# Altium schematic symbol library powerpath_selector.SchLib: 2 symbols
Pins are listed as number, name and electrical type; pins without a type are passive.

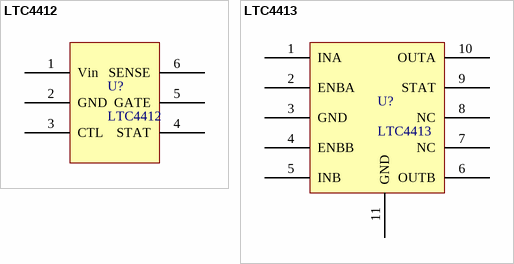
[diagram p0: symbols LTC4412 to LTC4413]

## LTC4412
designator U?
Low Loss PowerPath Controller in ThinSOT; Supplier 1: Digi-Key; Supplier Part Number 1: LTC4412ES6#TRMPBFCT-ND
footprint TSOT-23 (SOT23, 6-Leads, Body 2.90x2.45mm, Pitch 0.95mm, IPC Medium Density)
pins: 1 Vin, 2 GND, 3 CTL, 4 STAT, 5 GATE, 6 SENSE

## LTC4413
designator U?
Dual 2.6A, 2.5V to 5.5V,  Ideal Diodes in 3mm × 3mm DFN; Supplier 1: Digi-Key; Supplier Part Number 1: LTC4413EDD#TRPBFCT-ND
footprint DFN-10 (QFN, 10-Leads, Body 3.00x3.00mm, Pitch 0.50mm, Thermal Pad 1.65x2.38mm, IPC Medium Density)
pins: 1 INA, 2 ENBA, 3 GND, 4 ENBB, 5 INB, 6 OUTB, 7 NC, 8 NC, 9 STAT, 10 OUTA, 11 GND